# EAGLE library part PCA9544A (library mylib)
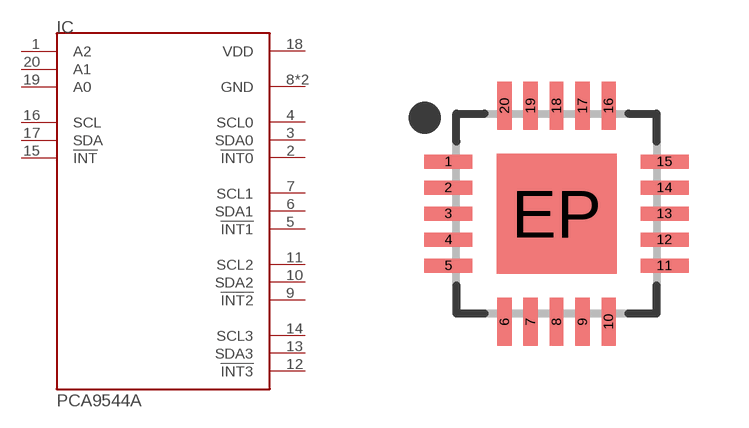
[diagram p124: symbol with the pads of QFN20-0.65P5.0X5.0; footprint QFN20-0.65P5.0X5.0]

Designator prefix IC

## PCA9544ABS  [QFN20-0.65P5.0X5.0]
1  A2
2  !INT0!
3  SDA0
4  SCL0
5  !INT1!
6  SDA1
7  SCL1
8  GND
9  !INT2!
10  SDA2
11  SCL2
12  !INT3!
13  SDA3
14  SCL3
15  !INT!
16  SCL
17  SDA
18  VDD
19  A0
20  A1
EP  GND

## Footprint QFN20-0.65P5.0X5.0 (pad centres in mm)
smd 1.2 x 0.35: 1 -2.7,1.3; 2 -2.7,0.65; 3 -2.7,0; 4 -2.7,-0.65; 5 -2.7,-1.3; 11 2.7,-1.3; 12 2.7,-0.65; 13 2.7,0; 14 2.7,0.65; 15 2.7,1.3
smd 0.35 x 1.2: 6 -1.3,-2.7; 7 -0.65,-2.7; 8 0,-2.7; 9 0.65,-2.7; 10 1.3,-2.7; 16 1.3,2.7; 17 0.65,2.7; 18 0,2.7; 19 -0.65,2.7; 20 -1.3,2.7
smd 3 x 3: EP 0,0